# Altium schematic symbol library TSX-3225_25.0000MF10P-C0.SchLib: 1 symbol
Pins are listed as number, name and electrical type; pins without a type are passive.

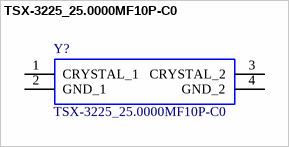
[diagram p0: symbol TSX-3225_25.0000MF10P-C0]

## TSX-3225_25.0000MF10P-C0
designator Y?
Crystals 25MHz 10ppm 18pF -20C +85C; Manufacturer_Name: Epson Timing; Manufacturer_Part_Number: TSX-3225 25.0000MF10P-C0; Geometry.Height: 0.6mm; Mouser Part Number: 732-322525F10PC0; Mouser Price/Stock: https://www.mouser.com/Search/Refine.aspx?Keyword=732-322525F10PC0; RS Part Number: *; RS Price/Stock: *; Datasheet Link: https://support.epson.biz/td/api/doc_check.php?dl=brief_TSX-3225&lang=en
footprint TSX3225250000MF10PC0
pins: 1 CRYSTAL_1, 2 GND_1, 3 CRYSTAL_2, 4 GND_2